# EAGLE library part 74HC7541D,118 (library 74HC7541D_118)
74HC(T)7541 - Octal Schmitt trigger buffer/line driver; 3-state@en-us Source: Datasheet <https://assets.nexperia.com/documents/data-sheet/74HC_HCT7541.pdf>
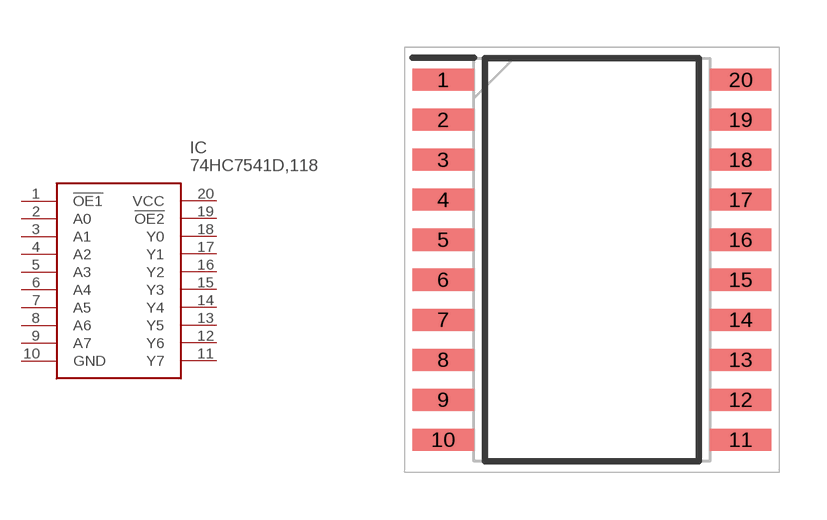
[diagram p0: symbol with the pads of SOIC127P1032X265-20N; footprint SOIC127P1032X265-20N]

Designator prefix IC

## 74HC7541D,118 (ARROW_PART_NUMBER: 74HC7541D,118; ARROW_PRICE-STOCK: https://www.arrow.com/en/products/74hc7541d118/nexperia; DESCRIPTION: 74HC(T)7541 - Octal Schmitt trigger buffer/line driver; 3-state@en-us; HEIGHT: 2.65mm; MANUFACTURER_NAME: Nexperia; MANUFACTURER_PART_NUMBER: 74HC7541D,118; MOUSER_PART_NUMBER: 771-74HC7541D-T; MOUSER_PRICE-STOCK: https://www.mouser.co.uk/ProductDetail/Nexperia/74HC7541D118?qs=P62ublwmbi8VXtyI4hHtzA%3D%3D)  [SOIC127P1032X265-20N]
1  !OE1
2  A0
3  A1
4  A2
5  A3
6  A4
7  A5
8  A6
9  A7
10  GND
11  Y7
12  Y6
13  Y5
14  Y4
15  Y3
16  Y2
17  Y1
18  Y0
19  !OE2
20  VCC

## Footprint SOIC127P1032X265-20N (pad centres in mm)
SO20
smd 1.95 x 0.7: 1 -4.725,5.715; 2 -4.725,4.445; 3 -4.725,3.175; 4 -4.725,1.905; 5 -4.725,0.635; 6 -4.725,-0.635; 7 -4.725,-1.905; 8 -4.725,-3.175; 9 -4.725,-4.445; 10 -4.725,-5.715; 11 4.725,-5.715; 12 4.725,-4.445; 13 4.725,-3.175; 14 4.725,-1.905; 15 4.725,-0.635; 16 4.725,0.635; 17 4.725,1.905; 18 4.725,3.175; 19 4.725,4.445; 20 4.725,5.715